# Altium footprint library J107F1CS125VDCP36.PcbLib: 1 footprints
Each footprint in its own frame and in the unit in brackets; x right, y up, seen from the top. Pads: shape width x height; smd on the part's side, far side on the other; paste and mask are expansions set on the pad; w line width, h text height; cw(c..) or ccw(c..) is an arc to the next point about the centre after c.
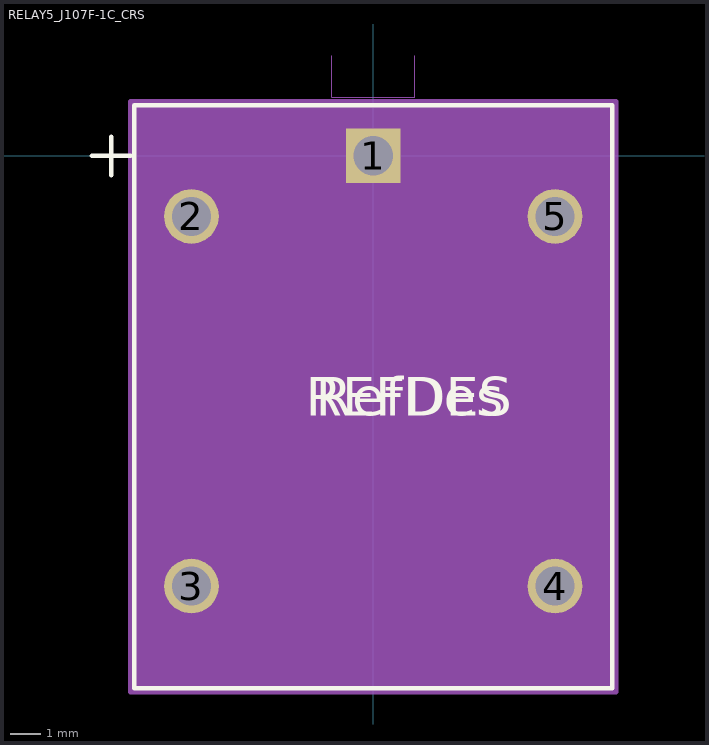
[diagram p0: the footprint, top view; thin cyan lines are the x and y axes]

## RELAY5_J107F-1C_CRS [mil]
pads (5):
  rect 71x71 / inner round 60 / far side rect 71x71 hole 51 paste-35.5 mask+0: 1(0,0)
  round 71 / inner round 60 / far side round 71 hole 51 paste-35.5 mask+0: 2(-236.22,-78.74) 3(-236.22,-559.02) 4(236.22,-559.02) 5(236.22,-78.74)
Top Overlay:
  lines w6: -365.5,0 -315.5,0 ; -340.5,-25 -340.5,25 ; -310.5,-691.98 -310.5,66.02 310.5,66.02 310.5,-691.98 -310.5,-691.98
  text "RefDes" at -75,-337.98 h50
  text "REFDES" at -87.5,-337.98 h50
Mechanical 13:
  lines w1: -365.5,0 -315.5,0 ; -340.5,-25 -340.5,0 ; -54.17,130.02 -54.17,75.86 54.17,75.86 54.17,130.02 ; -305.5,-686.98 -305.5,61.02 305.5,61.02 305.5,-686.98 -305.5,-686.98
  text "RefDes2" at -87.5,-337.98 h50
Mechanical 15:
  region: 305.5,-686.98 -305.5,-686.98 -305.5,61.02 305.5,61.02
  region: 315.5,71.02 -315.5,71.02 -315.5,-696.98 315.5,-696.98
  lines w6: -315.5,-696.98 315.5,-696.98 315.5,71.02 -315.5,71.02 -315.5,-696.98
3D body "J107F1C.stp": height 590.2, standoff -157.48, extent -306.42,-690 305,58.03